# EAGLE library part OSHCONNECT (library oshconnect)
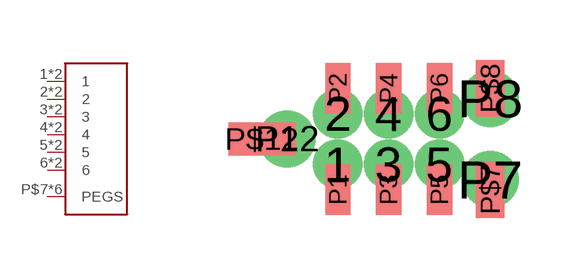
[diagram p0: symbol with the pads of OSHCONNECT; footprint OSHCONNECT]

Designator prefix J

## OSHCONNECT-  [OSHCONNECT]
1  1  pas
2  2  pas
3  3  pas
4  4  pas
5  5  pas
6  6  pas
P1  1  pas
P2  2  pas
P3  3  pas
P4  4  pas
P5  5  pas
P6  6  pas
P7  PEGS
P8  PEGS
P12  PEGS
P$7  PEGS
P$8  PEGS
P$12  PEGS

## Footprint OSHCONNECT (pad centres in mm)
drill 0.73 pad 1.092: 1 1.27,-0.635; 2 1.27,0.635; 3 2.54,-0.635; 4 2.54,0.635; 5 3.81,-0.635; 6 3.81,0.635
smd 0.635 x 1.27: P1 1.27,-1.27; P2 1.27,1.27; P3 2.54,-1.27; P4 2.54,1.27; P5 3.81,-1.27; P6 3.81,1.27
drill 0.92 pad 1.245: P7 5.08,-1.016; P8 5.08,1.016
drill 0.92 pad 1.346: P12 0,0
smd 0.711 x 1.422: P$7 5.08,-1.27; P$8 5.08,1.27
smd 1.676 x 0.813: P$12 -0.635,0